# Altium integrated library TI Power Management Power Modules.IntLib: 831 symbols (part 38 of 44)
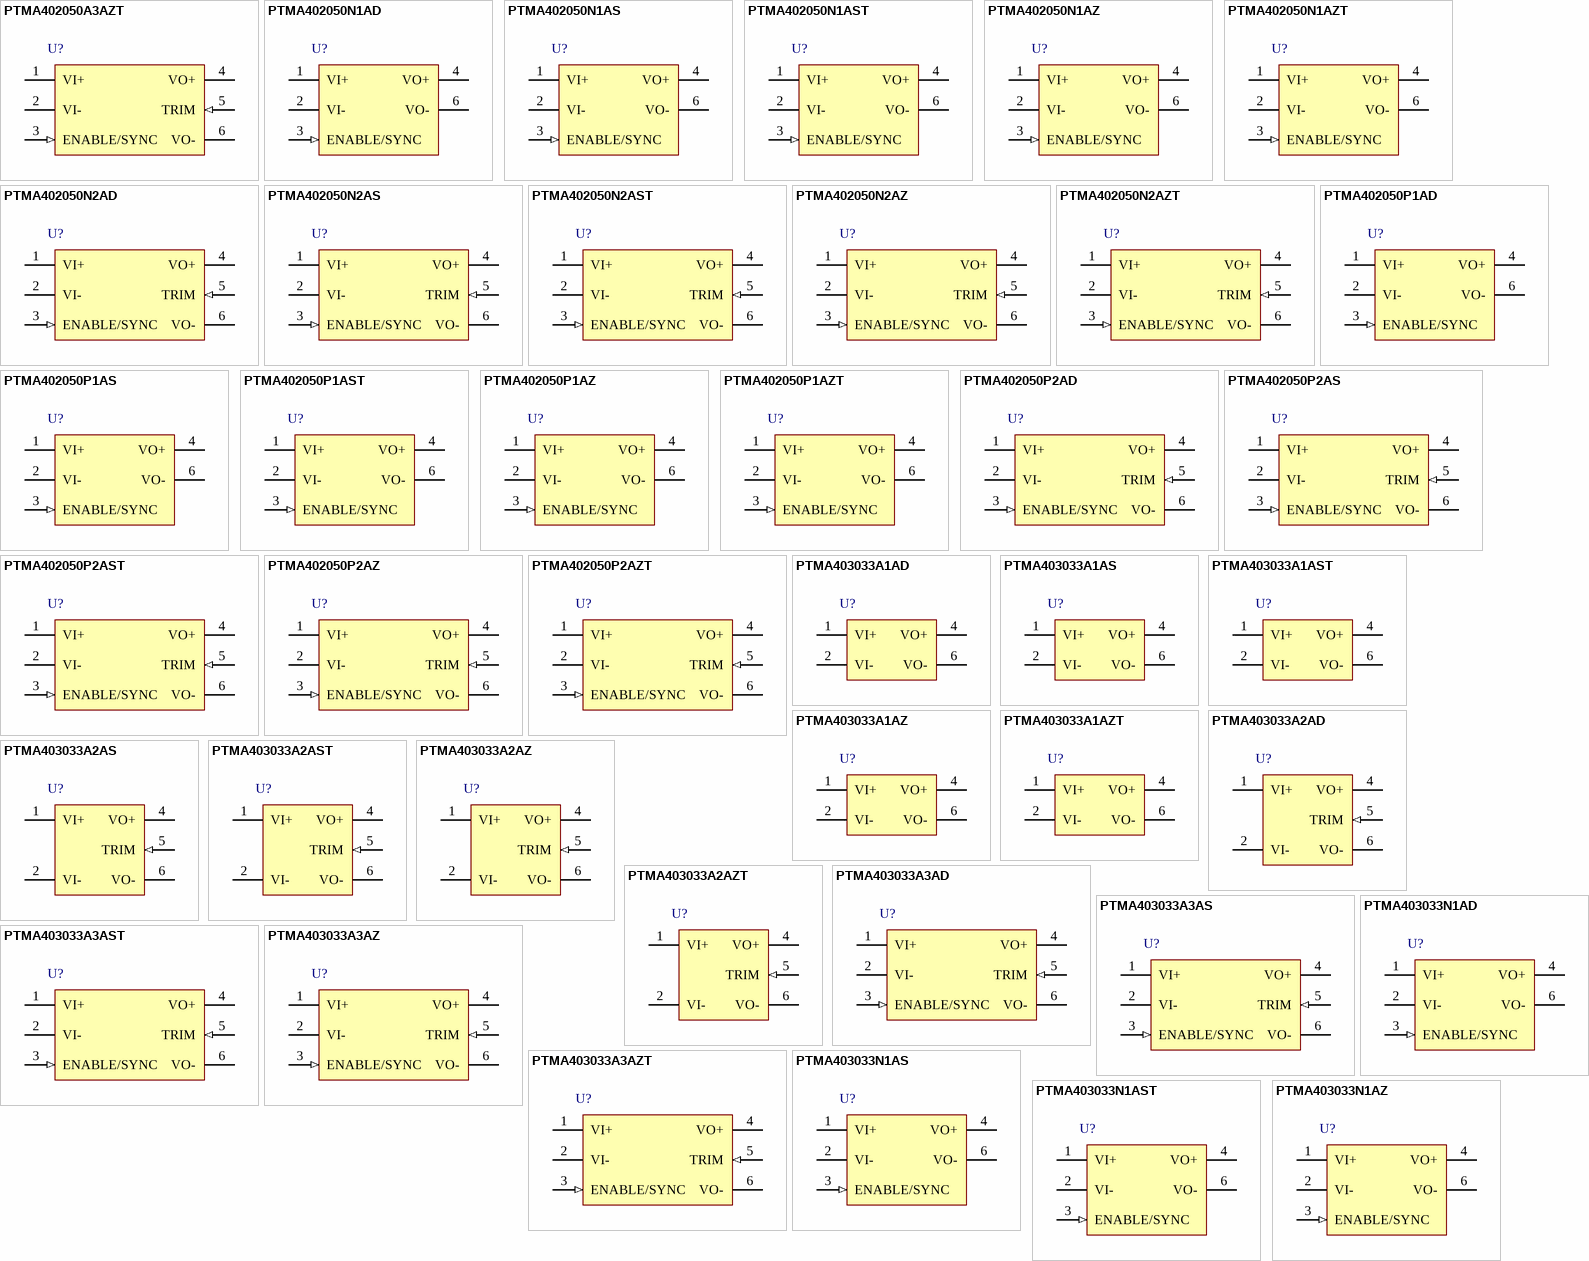
[diagram p60: symbols PTMA402050A3AZT to PTMA403033N1AZ]

## PTMA403033A3AZT
designator U?
10 W, 36 to 75 V Input, 1500 V Isolation, DC-DC Converter, -40 to 85 degC, 6-pin Module (BET6); Manufacturer: Texas Instruments; PartNumber: PTMA403033A3AZT; Eco-Plan: TBD; Iout(Max)(A): 3; Regulated Outputs(#): 1; SubFamily: 48V Standard Pinout Brick and 36V to 75V Input; Vin(Max)(V): 75; Vin(Min)(V): 36; Vout(Max)(V): 3.6; DatasheetVersion: SLTS259B; PackageVersion: 4207711-4/B; PackageReference: BET6; PackageDescription: 6-Pin Plastic Special Shape, Body 24.38 x 27.94 mm; Supplier 1: Digi-Key; Supplier Part Number 1: PTMA403033A3AZT-ND; Supplier 2: Mouser; Supplier Part Number 2: 595-PTMA403033A3AZT; Vout(Min)(V): 3; Mounting Technology: Surface Mount; ComponentLink1Description: Manufacturer URL; ComponentLink1URL: http://www.ti.com/; ComponentLink2Description: Datasheet; ComponentLink2URL: http://www.ti.com/general/docs/lit/getliterature.tsp?genericPartNumber=PTMA403033&fileType=pdf; ComponentLink3Description: Package Specification; ComponentLink3URL: http://www.ti.com/lit/ml/mpds256a/mpds256a.pdf; ComponentLink4Description: URL Link1; ComponentLink4URL: Samples URL:http://www.ti.com/product/ptma403033#samples
footprint TI-BET6_V (Module, 6-Leads, Body 27.94x24.38mm)
pins: 1 VI+ (power) "The positive input for the module with respect to VI- When powering the module from a negative input voltage, this input is connected to the input source ground.", 2 VI- (power) "The negative input supply for the module, and the 0-V reference for the Enable/Sync inputs. When powering the module from a positive source, this input is connected to the input source return.", 3 ENABLE/SYNC (in), 4 VO+ (power) "This is the positive power output with respect to VO-. It is dc isolated from the input power pins.", 5 TRIM (in) "This pin allows the output voltage set point of the module to be increased or decreased up to +/- 10 %. Connecting a resistor between this terminal and VO+ decreases the output voltage set point. Connecting a resistor (See Datasheet)", 6 VO- (power) "This is the output power return for the VO+ bus. This terminal should be connected to the common of the load circuit."

## PTMA403033N1AD
designator U?
10 W, 36 to 75 V Input, 1500 V Isolation, DC-DC Converter, -40 to 85 degC, 5-pin Module (EEP5), Pb-Free (RoHS); Manufacturer: Texas Instruments; PartNumber: PTMA403033N1AD; Iout(Max)(A): 3; Regulated Outputs(#): 1; SubFamily: 48V Standard Pinout Brick and 36V to 75V Input; Vin(Max)(V): 75; Vin(Min)(V): 36; Vout(Max)(V): 3.6; DatasheetVersion: SLTS259B; PackageVersion: 4207367-3/C; PackageReference: EEP5; PackageDescription: 5-Pin Plastic Special Shape, Body 24.38 x 27.94 mm; Supplier 1: Digi-Key; Supplier Part Number 1: 296-21485-ND; Supplier 2: Newark; Supplier Part Number 2: 81K3793; Supplier 3: Mouser; Supplier Part Number 3: 595-PTMA403033N1AD; Eco-Plan: Pb-Free (RoHS); Vout(Min)(V): 3; Mounting Technology: Through Hole; ComponentLink1Description: Manufacturer URL; ComponentLink1URL: http://www.ti.com/; ComponentLink2Description: Datasheet; ComponentLink2URL: http://www.ti.com/general/docs/lit/getliterature.tsp?genericPartNumber=PTMA403033&fileType=pdf; ComponentLink3Description: Package Specification; ComponentLink3URL: http://www.ti.com/litv/pdf/mpds249; ComponentLink4Description: URL Link1; ComponentLink4URL: Samples URL:http://www.ti.com/product/ptma403033#samples
footprint TI-EEP5_V (Module, 5-Leads, Body 27.94x24.38mm)
pins: 1 VI+ (power) "The positive input for the module with respect to VI-. When powering the module from a negative input voltage, this input is connected to the input source ground.", 2 VI- (power) "The negative input supply for the module, and the 0-V reference for the Enable/Sync inputs. When powering the module from a positive source, this input is connected to the input source return.", 3 ENABLE/SYNC (in) "The Enable input is an open-base logic input that is referenced to VI-. Two ON/OFF enable options are available, positve logic and negative logic. Positive logic devices are enabled by applying a logic high voltage (Open) (See Datasheet)", 4 VO+ (power) "This is the positive power output with respect to VO-. It is dc isolated from the input power pins.", 6 VO- (power) "This is the output power return for the VO+ bus. This terminal should be connected to the common of the load circuit."

## PTMA403033N1AS
designator U?
10 W, 36 to 75 V Input, 1500 V Isolation, DC-DC Converter, -40 to 85 degC, 5-pin Module (EET5); Manufacturer: Texas Instruments; PartNumber: PTMA403033N1AS; Eco-Plan: TBD; Iout(Max)(A): 3; Regulated Outputs(#): 1; SubFamily: 48V Standard Pinout Brick and 36V to 75V Input; Vin(Max)(V): 75; Vin(Min)(V): 36; Vout(Max)(V): 3.6; DatasheetVersion: SLTS259B; PackageVersion: 4207368-3/C; PackageReference: EET5; PackageDescription: 5-Pin Plastic Special Shape, Body 24.38 x 27.94 mm; Supplier 1: Digi-Key; Supplier Part Number 1: PTMA403033N1AS-ND; Supplier 2: Newark; Supplier Part Number 2: 81K3794; Supplier 3: Mouser; Supplier Part Number 3: 595-PTMA403033N1AS; Vout(Min)(V): 3; Mounting Technology: Surface Mount; ComponentLink1Description: Manufacturer URL; ComponentLink1URL: http://www.ti.com/; ComponentLink2Description: Datasheet; ComponentLink2URL: http://www.ti.com/general/docs/lit/getliterature.tsp?genericPartNumber=PTMA403033&fileType=pdf; ComponentLink3Description: Package Specification; ComponentLink3URL: http://www.ti.com/litv/pdf/mpds250; ComponentLink4Description: URL Link1; ComponentLink4URL: Samples URL:http://www.ti.com/product/ptma403033#samples
footprint TI-EET5_V (Module, 5-Leads, Body 27.94x24.38mm)
pins: 1 VI+ (power) "The positive input for the module with respect to VI-. When powering the module from a negative input voltage, this input is connected to the input source ground.", 2 VI- (power) "The negative input supply for the module, and the 0-V reference for the Enable/Sync inputs. When powering the module from a positive source, this input is connected to the input source return.", 3 ENABLE/SYNC (in) "The Enable input is an open-base logic input that is referenced to VI-. Two ON/OFF enable options are available, positve logic and negative logic. Positive logic devices are enabled by applying a logic high voltage (Open) (See Datasheet)", 4 VO+ (power) "This is the positive power output with respect to VO-. It is dc isolated from the input power pins.", 6 VO- (power) "This is the output power return for the VO+ bus. This terminal should be connected to the common of the load circuit."

## PTMA403033N1AST
designator U?
10 W, 36 to 75 V Input, 1500 V Isolation, DC-DC Converter, -40 to 85 degC, 5-pin Module (EET5); Manufacturer: Texas Instruments; PartNumber: PTMA403033N1AST; Eco-Plan: TBD; Iout(Max)(A): 3; Regulated Outputs(#): 1; SubFamily: 48V Standard Pinout Brick and 36V to 75V Input; Vin(Max)(V): 75; Vin(Min)(V): 36; Vout(Max)(V): 3.6; DatasheetVersion: SLTS259B; PackageVersion: 4207368-3/C; PackageReference: EET5; PackageDescription: 5-Pin Plastic Special Shape, Body 24.38 x 27.94 mm; Supplier 1: Digi-Key; Supplier Part Number 1: PTMA403033N1AST-ND; Supplier 2: Mouser; Supplier Part Number 2: 595-PTMA403033N1AST; Vout(Min)(V): 3; Mounting Technology: Surface Mount; ComponentLink1Description: Manufacturer URL; ComponentLink1URL: http://www.ti.com/; ComponentLink2Description: Datasheet; ComponentLink2URL: http://www.ti.com/general/docs/lit/getliterature.tsp?genericPartNumber=PTMA403033&fileType=pdf; ComponentLink3Description: Package Specification; ComponentLink3URL: http://www.ti.com/litv/pdf/mpds250; ComponentLink4Description: URL Link1; ComponentLink4URL: Samples URL:http://www.ti.com/product/ptma403033#samples
footprint TI-EET5_V (Module, 5-Leads, Body 27.94x24.38mm)
pins: 1 VI+ (power) "The positive input for the module with respect to VI-. When powering the module from a negative input voltage, this input is connected to the input source ground.", 2 VI- (power) "The negative input supply for the module, and the 0-V reference for the Enable/Sync inputs. When powering the module from a positive source, this input is connected to the input source return.", 3 ENABLE/SYNC (in) "The Enable input is an open-base logic input that is referenced to VI-. Two ON/OFF enable options are available, positve logic and negative logic. Positive logic devices are enabled by applying a logic high voltage (Open) (See Datasheet)", 4 VO+ (power) "This is the positive power output with respect to VO-. It is dc isolated from the input power pins.", 6 VO- (power) "This is the output power return for the VO+ bus. This terminal should be connected to the common of the load circuit."

## PTMA403033N1AZ
designator U?
10 W, 36 to 75 V Input, 1500 V Isolation, DC-DC Converter, -40 to 85 degC, 5-pin Module (BET5), Pb-Free (RoHS); Manufacturer: Texas Instruments; PartNumber: PTMA403033N1AZ; Iout(Max)(A): 3; Regulated Outputs(#): 1; SubFamily: 48V Standard Pinout Brick and 36V to 75V Input; Vin(Max)(V): 75; Vin(Min)(V): 36; Vout(Max)(V): 3.6; DatasheetVersion: SLTS259B; PackageVersion: 4207711-3/B; PackageReference: BET5; PackageDescription: 5-Pin Plastic Special Shape, Body 24.38 x 27.94 mm; Supplier 1: Digi-Key; Supplier Part Number 1: 296-21486-ND; Supplier 2: Newark; Supplier Part Number 2: 81K3796; Supplier 3: Mouser; Supplier Part Number 3: 595-PTMA403033N1AZ; Eco-Plan: Pb-Free (RoHS); Vout(Min)(V): 3; Mounting Technology: Surface Mount; ComponentLink1Description: Manufacturer URL; ComponentLink1URL: http://www.ti.com/; ComponentLink2Description: Datasheet; ComponentLink2URL: http://www.ti.com/general/docs/lit/getliterature.tsp?genericPartNumber=PTMA403033&fileType=pdf; ComponentLink3Description: Package Specification; ComponentLink3URL: http://www-s.ti.com/sc/psheets/mpds255a/mpds255a.pdf; ComponentLink4Description: URL Link1; ComponentLink4URL: Samples URL:http://www.ti.com/product/ptma403033#samples
footprint TI-BET5_V (Module, 5-Leads, Body 27.94x24.38mm)
pins: 1 VI+ (power) "The positive input for the module with respect to VI-. When powering the module from a negative input voltage, this input is connected to the input source ground.", 2 VI- (power) "The negative input supply for the module, and the 0-V reference for the Enable/Sync inputs. When powering the module from a positive source, this input is connected to the input source return.", 3 ENABLE/SYNC (in) "The Enable input is an open-base logic input that is referenced to VI-. Two ON/OFF enable options are available, positve logic and negative logic. Positive logic devices are enabled by applying a logic high voltage (Open) (See Datasheet)", 4 VO+ (power) "This is the positive power output with respect to VO-. It is dc isolated from the input power pins.", 6 VO- (power) "This is the output power return for the VO+ bus. This terminal should be connected to the common of the load circuit."

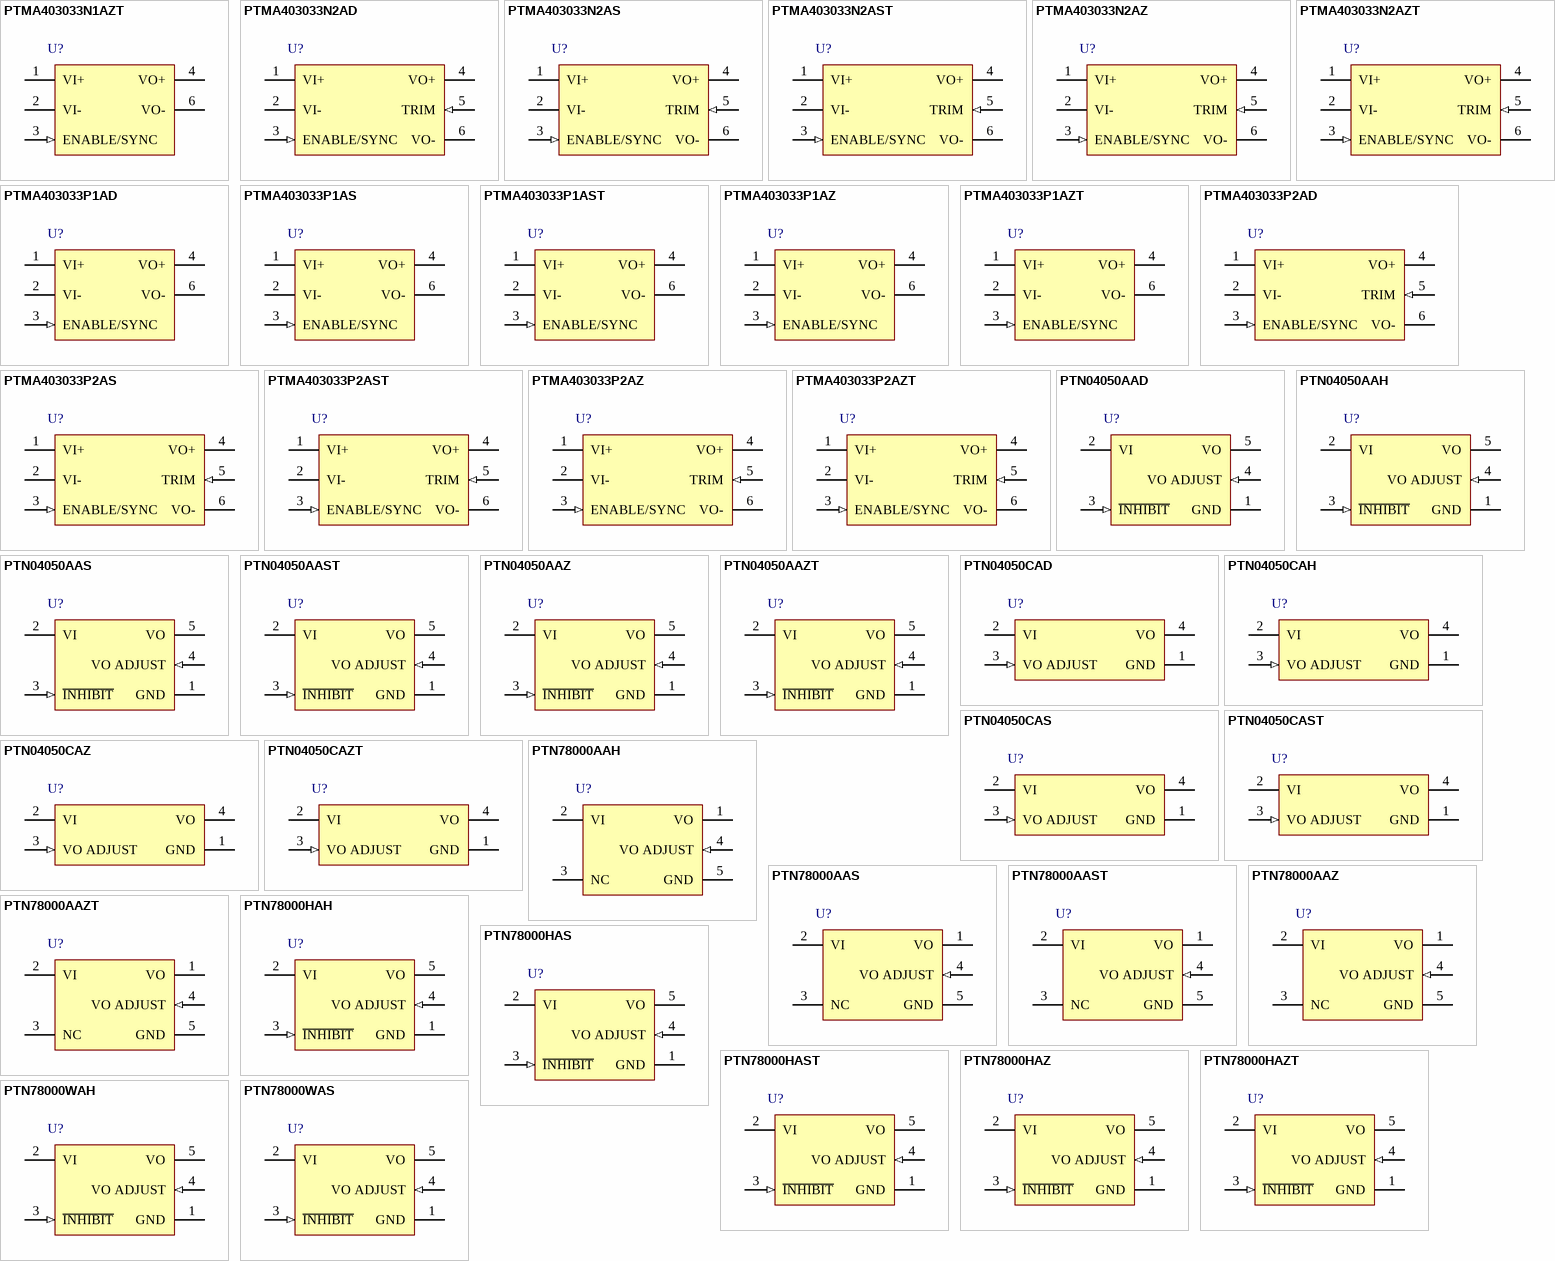
[diagram p21: symbols PTMA403033N1AZT to PTN78000WAS]

## PTMA403033N1AZT
designator U?
10 W, 36 to 75 V Input, 1500 V Isolation, DC-DC Converter, -40 to 85 degC, 5-pin Module (BET5); Manufacturer: Texas Instruments; PartNumber: PTMA403033N1AZT; Eco-Plan: TBD; Iout(Max)(A): 3; Regulated Outputs(#): 1; SubFamily: 48V Standard Pinout Brick and 36V to 75V Input; Vin(Max)(V): 75; Vin(Min)(V): 36; Vout(Max)(V): 3.6; DatasheetVersion: SLTS259B; PackageVersion: 4207711-3/B; PackageReference: BET5; PackageDescription: 5-Pin Plastic Special Shape, Body 24.38 x 27.94 mm; Supplier 1: Digi-Key; Supplier Part Number 1: PTMA403033N1AZT-ND; Supplier 2: Newark; Supplier Part Number 2: 81K3797; Supplier 3: Mouser; Supplier Part Number 3: 595-PTMA403033N1AZT; Vout(Min)(V): 3; Mounting Technology: Surface Mount; ComponentLink1Description: Manufacturer URL; ComponentLink1URL: http://www.ti.com/; ComponentLink2Description: Datasheet; ComponentLink2URL: http://www.ti.com/general/docs/lit/getliterature.tsp?genericPartNumber=PTMA403033&fileType=pdf; ComponentLink3Description: Package Specification; ComponentLink3URL: http://www-s.ti.com/sc/psheets/mpds255a/mpds255a.pdf; ComponentLink4Description: URL Link1; ComponentLink4URL: Samples URL:http://www.ti.com/product/ptma403033#samples
footprint TI-BET5_V (Module, 5-Leads, Body 27.94x24.38mm)
pins: 1 VI+ (power) "The positive input for the module with respect to VI-. When powering the module from a negative input voltage, this input is connected to the input source ground.", 2 VI- (power) "The negative input supply for the module, and the 0-V reference for the Enable/Sync inputs. When powering the module from a positive source, this input is connected to the input source return.", 3 ENABLE/SYNC (in) "The Enable input is an open-base logic input that is referenced to VI-. Two ON/OFF enable options are available, positve logic and negative logic. Positive logic devices are enabled by applying a logic high voltage (Open) (See Datasheet)", 4 VO+ (power) "This is the positive power output with respect to VO-. It is dc isolated from the input power pins.", 6 VO- (power) "This is the output power return for the VO+ bus. This terminal should be connected to the common of the load circuit."

## PTMA403033N2AD
designator U?
10 W, 36 to 75 V Input, 1500 V Isolation, DC-DC Converter, -40 to 85 degC, 6-pin Module (EEP6), Pb-Free (RoHS); Manufacturer: Texas Instruments; PartNumber: PTMA403033N2AD; Iout(Max)(A): 3; Regulated Outputs(#): 1; SubFamily: 48V Standard Pinout Brick and 36V to 75V Input; Vin(Max)(V): 75; Vin(Min)(V): 36; Vout(Max)(V): 3.6; DatasheetVersion: SLTS259B; PackageVersion: 4207367-4/C; PackageReference: EEP6; PackageDescription: 6-Pin Plastic Special Shape, Body 24.38 x 27.94 mm; Supplier 1: Digi-Key; Supplier Part Number 1: 296-20494-ND; Supplier 2: Newark; Supplier Part Number 2: 81K3798; Supplier 3: Mouser; Supplier Part Number 3: 595-PTMA403033N2AD; Eco-Plan: Pb-Free (RoHS); Vout(Min)(V): 3; Mounting Technology: Through Hole; ComponentLink1Description: Manufacturer URL; ComponentLink1URL: http://www.ti.com/; ComponentLink2Description: Datasheet; ComponentLink2URL: http://www.ti.com/general/docs/lit/getliterature.tsp?genericPartNumber=PTMA403033&fileType=pdf; ComponentLink3Description: Package Specification; ComponentLink3URL: http://www.ti.com/litv/pdf/mpds232b; ComponentLink4Description: URL Link1; ComponentLink4URL: Samples URL:http://www.ti.com/product/ptma403033#samples
footprint TI-EEP6_V (Module, 6-Leads, Body 27.94x24.38mm)
pins: 1 VI+ (power) "The positive input for the module with respect to VI- When powering the module from a negative input voltage, this input is connected to the input source ground.", 2 VI- (power) "The negative input supply for the module, and the 0-V reference for the Enable/Sync inputs. When powering the module from a positive source, this input is connected to the input source return.", 3 ENABLE/SYNC (in), 4 VO+ (power) "This is the positive power output with respect to VO-. It is dc isolated from the input power pins.", 5 TRIM (in) "This pin allows the output voltage set point of the module to be increased or decreased up to +/- 10 %. Connecting a resistor between this terminal and VO+ decreases the output voltage set point. Connecting a resistor (See Datasheet)", 6 VO- (power) "This is the output power return for the VO+ bus. This terminal should be connected to the common of the load circuit."

## PTMA403033N2AS
designator U?
10 W, 36 to 75 V Input, 1500 V Isolation, DC-DC Converter, -40 to 85 degC, 6-pin Module (EET6); Manufacturer: Texas Instruments; PartNumber: PTMA403033N2AS; Eco-Plan: TBD; Iout(Max)(A): 3; Regulated Outputs(#): 1; SubFamily: 48V Standard Pinout Brick and 36V to 75V Input; Vin(Max)(V): 75; Vin(Min)(V): 36; Vout(Max)(V): 3.6; DatasheetVersion: SLTS259B; PackageVersion: 4207368-4/C; PackageReference: EET6; PackageDescription: 6-Pin Plastic Special Shape, Body 24.38 x 27.94 mm; Supplier 1: Digi-Key; Supplier Part Number 1: 296-20495-ND; Supplier 2: Newark; Supplier Part Number 2: 81K3799; Supplier 3: Mouser; Supplier Part Number 3: 595-PTMA403033N2AS; Vout(Min)(V): 3; Mounting Technology: Surface Mount; ComponentLink1Description: Manufacturer URL; ComponentLink1URL: http://www.ti.com/; ComponentLink2Description: Datasheet; ComponentLink2URL: http://www.ti.com/general/docs/lit/getliterature.tsp?genericPartNumber=PTMA403033&fileType=pdf; ComponentLink3Description: Package Specification; ComponentLink3URL: http://www-s.ti.com/sc/psheets/mpds233b/mpds233b.pdf; ComponentLink4Description: URL Link1; ComponentLink4URL: Samples URL:http://www.ti.com/product/ptma403033#samples
footprint TI-EET6_V (Module, 6-Leads, Body 27.94x24.38mm)
pins: 1 VI+ (power) "The positive input for the module with respect to VI- When powering the module from a negative input voltage, this input is connected to the input source ground.", 2 VI- (power) "The negative input supply for the module, and the 0-V reference for the Enable/Sync inputs. When powering the module from a positive source, this input is connected to the input source return.", 3 ENABLE/SYNC (in), 4 VO+ (power) "This is the positive power output with respect to VO-. It is dc isolated from the input power pins.", 5 TRIM (in) "This pin allows the output voltage set point of the module to be increased or decreased up to +/- 10 %. Connecting a resistor between this terminal and VO+ decreases the output voltage set point. Connecting a resistor (See Datasheet)", 6 VO- (power) "This is the output power return for the VO+ bus. This terminal should be connected to the common of the load circuit."

## PTMA403033N2AST
designator U?
10 W, 36 to 75 V Input, 1500 V Isolation, DC-DC Converter, -40 to 85 degC, 6-pin Module (EET6); Manufacturer: Texas Instruments; PartNumber: PTMA403033N2AST; Eco-Plan: TBD; Iout(Max)(A): 3; Regulated Outputs(#): 1; SubFamily: 48V Standard Pinout Brick and 36V to 75V Input; Vin(Max)(V): 75; Vin(Min)(V): 36; Vout(Max)(V): 3.6; DatasheetVersion: SLTS259B; PackageVersion: 4207368-4/C; PackageReference: EET6; PackageDescription: 6-Pin Plastic Special Shape, Body 24.38 x 27.94 mm; Supplier 1: Digi-Key; Supplier Part Number 1: PTMA403033N2AST-ND; Supplier 2: Mouser; Supplier Part Number 2: 595-PTMA403033N2AST; Vout(Min)(V): 3; Mounting Technology: Surface Mount; ComponentLink1Description: Manufacturer URL; ComponentLink1URL: http://www.ti.com/; ComponentLink2Description: Datasheet; ComponentLink2URL: http://www.ti.com/general/docs/lit/getliterature.tsp?genericPartNumber=PTMA403033&fileType=pdf; ComponentLink3Description: Package Specification; ComponentLink3URL: http://www-s.ti.com/sc/psheets/mpds233b/mpds233b.pdf; ComponentLink4Description: URL Link1; ComponentLink4URL: Samples URL:http://www.ti.com/product/ptma403033#samples
footprint TI-EET6_V (Module, 6-Leads, Body 27.94x24.38mm)
pins: 1 VI+ (power) "The positive input for the module with respect to VI- When powering the module from a negative input voltage, this input is connected to the input source ground.", 2 VI- (power) "The negative input supply for the module, and the 0-V reference for the Enable/Sync inputs. When powering the module from a positive source, this input is connected to the input source return.", 3 ENABLE/SYNC (in), 4 VO+ (power) "This is the positive power output with respect to VO-. It is dc isolated from the input power pins.", 5 TRIM (in) "This pin allows the output voltage set point of the module to be increased or decreased up to +/- 10 %. Connecting a resistor between this terminal and VO+ decreases the output voltage set point. Connecting a resistor (See Datasheet)", 6 VO- (power) "This is the output power return for the VO+ bus. This terminal should be connected to the common of the load circuit."

## PTMA403033N2AZ
designator U?
10 W, 36 to 75 V Input, 1500 V Isolation, DC-DC Converter, -40 to 85 degC, 6-pin Module (BET6), Pb-Free (RoHS); Manufacturer: Texas Instruments; PartNumber: PTMA403033N2AZ; Iout(Max)(A): 3; Regulated Outputs(#): 1; SubFamily: 48V Standard Pinout Brick and 36V to 75V Input; Vin(Max)(V): 75; Vin(Min)(V): 36; Vout(Max)(V): 3.6; DatasheetVersion: SLTS259B; PackageVersion: 4207711-4/B; PackageReference: BET6; PackageDescription: 6-Pin Plastic Special Shape, Body 24.38 x 27.94 mm; Supplier 1: Digi-Key; Supplier Part Number 1: 296-21487-ND; Supplier 2: Newark; Supplier Part Number 2: 81K3801; Supplier 3: Mouser; Supplier Part Number 3: 595-PTMA403033N2AZ; Eco-Plan: Pb-Free (RoHS); Vout(Min)(V): 3; Mounting Technology: Surface Mount; ComponentLink1Description: Manufacturer URL; ComponentLink1URL: http://www.ti.com/; ComponentLink2Description: Datasheet; ComponentLink2URL: http://www.ti.com/general/docs/lit/getliterature.tsp?genericPartNumber=PTMA403033&fileType=pdf; ComponentLink3Description: Package Specification; ComponentLink3URL: http://www.ti.com/lit/ml/mpds256a/mpds256a.pdf; ComponentLink4Description: URL Link1; ComponentLink4URL: Samples URL:http://www.ti.com/product/ptma403033#samples
footprint TI-BET6_V (Module, 6-Leads, Body 27.94x24.38mm)
pins: 1 VI+ (power) "The positive input for the module with respect to VI- When powering the module from a negative input voltage, this input is connected to the input source ground.", 2 VI- (power) "The negative input supply for the module, and the 0-V reference for the Enable/Sync inputs. When powering the module from a positive source, this input is connected to the input source return.", 3 ENABLE/SYNC (in), 4 VO+ (power) "This is the positive power output with respect to VO-. It is dc isolated from the input power pins.", 5 TRIM (in) "This pin allows the output voltage set point of the module to be increased or decreased up to +/- 10 %. Connecting a resistor between this terminal and VO+ decreases the output voltage set point. Connecting a resistor (See Datasheet)", 6 VO- (power) "This is the output power return for the VO+ bus. This terminal should be connected to the common of the load circuit."

## PTMA403033N2AZT
designator U?
10 W, 36 to 75 V Input, 1500 V Isolation, DC-DC Converter, -40 to 85 degC, 6-pin Module (BET6); Manufacturer: Texas Instruments; PartNumber: PTMA403033N2AZT; Eco-Plan: TBD; Iout(Max)(A): 3; Regulated Outputs(#): 1; SubFamily: 48V Standard Pinout Brick and 36V to 75V Input; Vin(Max)(V): 75; Vin(Min)(V): 36; Vout(Max)(V): 3.6; DatasheetVersion: SLTS259B; PackageVersion: 4207711-4/B; PackageReference: BET6; PackageDescription: 6-Pin Plastic Special Shape, Body 24.38 x 27.94 mm; Supplier 1: Digi-Key; Supplier Part Number 1: PTMA403033N2AZT-ND; Supplier 2: Mouser; Supplier Part Number 2: 595-PTMA403033N2AZT; Vout(Min)(V): 3; Mounting Technology: Surface Mount; ComponentLink1Description: Manufacturer URL; ComponentLink1URL: http://www.ti.com/; ComponentLink2Description: Datasheet; ComponentLink2URL: http://www.ti.com/general/docs/lit/getliterature.tsp?genericPartNumber=PTMA403033&fileType=pdf; ComponentLink3Description: Package Specification; ComponentLink3URL: http://www.ti.com/lit/ml/mpds256a/mpds256a.pdf; ComponentLink4Description: URL Link1; ComponentLink4URL: Samples URL:http://www.ti.com/product/ptma403033#samples
footprint TI-BET6_V (Module, 6-Leads, Body 27.94x24.38mm)
pins: 1 VI+ (power) "The positive input for the module with respect to VI- When powering the module from a negative input voltage, this input is connected to the input source ground.", 2 VI- (power) "The negative input supply for the module, and the 0-V reference for the Enable/Sync inputs. When powering the module from a positive source, this input is connected to the input source return.", 3 ENABLE/SYNC (in), 4 VO+ (power) "This is the positive power output with respect to VO-. It is dc isolated from the input power pins.", 5 TRIM (in) "This pin allows the output voltage set point of the module to be increased or decreased up to +/- 10 %. Connecting a resistor between this terminal and VO+ decreases the output voltage set point. Connecting a resistor (See Datasheet)", 6 VO- (power) "This is the output power return for the VO+ bus. This terminal should be connected to the common of the load circuit."

## PTMA403033P1AD
designator U?
10 W, 36 to 75 V Input, 1500 V Isolation, DC-DC Converter, -40 to 85 degC, 5-pin Module (EEP5), Pb-Free (RoHS); Manufacturer: Texas Instruments; PartNumber: PTMA403033P1AD; Iout(Max)(A): 3; Regulated Outputs(#): 1; SubFamily: 48V Standard Pinout Brick and 36V to 75V Input; Vin(Max)(V): 75; Vin(Min)(V): 36; Vout(Max)(V): 3.6; DatasheetVersion: SLTS259B; PackageVersion: 4207367-3/C; PackageReference: EEP5; PackageDescription: 5-Pin Plastic Special Shape, Body 24.38 x 27.94 mm; Supplier 1: Digi-Key; Supplier Part Number 1: 296-21488-ND; Supplier 2: Newark; Supplier Part Number 2: 81K3803; Supplier 3: Mouser; Supplier Part Number 3: 595-PTMA403033P1AD; Eco-Plan: Pb-Free (RoHS); Vout(Min)(V): 3; Mounting Technology: Through Hole; ComponentLink1Description: Manufacturer URL; ComponentLink1URL: http://www.ti.com/; ComponentLink2Description: Datasheet; ComponentLink2URL: http://www.ti.com/general/docs/lit/getliterature.tsp?genericPartNumber=PTMA403033&fileType=pdf; ComponentLink3Description: Package Specification; ComponentLink3URL: http://www.ti.com/litv/pdf/mpds249; ComponentLink4Description: URL Link1; ComponentLink4URL: Samples URL:http://www.ti.com/product/ptma403033#samples
footprint TI-EEP5_V (Module, 5-Leads, Body 27.94x24.38mm)
pins: 1 VI+ (power) "The positive input for the module with respect to VI-. When powering the module from a negative input voltage, this input is connected to the input source ground.", 2 VI- (power) "The negative input supply for the module, and the 0-V reference for the Enable/Sync inputs. When powering the module from a positive source, this input is connected to the input source return.", 3 ENABLE/SYNC (in) "The Enable input is an open-base logic input that is referenced to VI-. Two ON/OFF enable options are available, positve logic and negative logic. Positive logic devices are enabled by applying a logic high voltage (Open) (See Datasheet)", 4 VO+ (power) "This is the positive power output with respect to VO-. It is dc isolated from the input power pins.", 6 VO- (power) "This is the output power return for the VO+ bus. This terminal should be connected to the common of the load circuit."

## PTMA403033P1AS
designator U?
10 W, 36 to 75 V Input, 1500 V Isolation, DC-DC Converter, -40 to 85 degC, 5-pin Module (EET5); Manufacturer: Texas Instruments; PartNumber: PTMA403033P1AS; Eco-Plan: TBD; Iout(Max)(A): 3; Regulated Outputs(#): 1; SubFamily: 48V Standard Pinout Brick and 36V to 75V Input; Vin(Max)(V): 75; Vin(Min)(V): 36; Vout(Max)(V): 3.6; DatasheetVersion: SLTS259B; PackageVersion: 4207368-3/C; PackageReference: EET5; PackageDescription: 5-Pin Plastic Special Shape, Body 24.38 x 27.94 mm; Supplier 1: Digi-Key; Supplier Part Number 1: PTMA403033P1AS-ND; Supplier 2: Mouser; Supplier Part Number 2: 595-PTMA403033P1AS; Vout(Min)(V): 3; Mounting Technology: Surface Mount; ComponentLink1Description: Manufacturer URL; ComponentLink1URL: http://www.ti.com/; ComponentLink2Description: Datasheet; ComponentLink2URL: http://www.ti.com/general/docs/lit/getliterature.tsp?genericPartNumber=PTMA403033&fileType=pdf; ComponentLink3Description: Package Specification; ComponentLink3URL: http://www.ti.com/litv/pdf/mpds250; ComponentLink4Description: URL Link1; ComponentLink4URL: Samples URL:http://www.ti.com/product/ptma403033#samples
footprint TI-EET5_V (Module, 5-Leads, Body 27.94x24.38mm)
pins: 1 VI+ (power) "The positive input for the module with respect to VI-. When powering the module from a negative input voltage, this input is connected to the input source ground.", 2 VI- (power) "The negative input supply for the module, and the 0-V reference for the Enable/Sync inputs. When powering the module from a positive source, this input is connected to the input source return.", 3 ENABLE/SYNC (in) "The Enable input is an open-base logic input that is referenced to VI-. Two ON/OFF enable options are available, positve logic and negative logic. Positive logic devices are enabled by applying a logic high voltage (Open) (See Datasheet)", 4 VO+ (power) "This is the positive power output with respect to VO-. It is dc isolated from the input power pins.", 6 VO- (power) "This is the output power return for the VO+ bus. This terminal should be connected to the common of the load circuit."

## PTMA403033P1AST
designator U?
10 W, 36 to 75 V Input, 1500 V Isolation, DC-DC Converter, -40 to 85 degC, 5-pin Module (EET5); Manufacturer: Texas Instruments; PartNumber: PTMA403033P1AST; Eco-Plan: TBD; Iout(Max)(A): 3; Regulated Outputs(#): 1; SubFamily: 48V Standard Pinout Brick and 36V to 75V Input; Vin(Max)(V): 75; Vin(Min)(V): 36; Vout(Max)(V): 3.6; DatasheetVersion: SLTS259B; PackageVersion: 4207368-3/C; PackageReference: EET5; PackageDescription: 5-Pin Plastic Special Shape, Body 24.38 x 27.94 mm; Supplier 1: Digi-Key; Supplier Part Number 1: PTMA403033P1AST-ND; Supplier 2: Mouser; Supplier Part Number 2: 595-PTMA403033P1AST; Vout(Min)(V): 3; Mounting Technology: Surface Mount; ComponentLink1Description: Manufacturer URL; ComponentLink1URL: http://www.ti.com/; ComponentLink2Description: Datasheet; ComponentLink2URL: http://www.ti.com/general/docs/lit/getliterature.tsp?genericPartNumber=PTMA403033&fileType=pdf; ComponentLink3Description: Package Specification; ComponentLink3URL: http://www.ti.com/litv/pdf/mpds250; ComponentLink4Description: URL Link1; ComponentLink4URL: Samples URL:http://www.ti.com/product/ptma403033#samples
footprint TI-EET5_V (Module, 5-Leads, Body 27.94x24.38mm)
pins: 1 VI+ (power) "The positive input for the module with respect to VI-. When powering the module from a negative input voltage, this input is connected to the input source ground.", 2 VI- (power) "The negative input supply for the module, and the 0-V reference for the Enable/Sync inputs. When powering the module from a positive source, this input is connected to the input source return.", 3 ENABLE/SYNC (in) "The Enable input is an open-base logic input that is referenced to VI-. Two ON/OFF enable options are available, positve logic and negative logic. Positive logic devices are enabled by applying a logic high voltage (Open) (See Datasheet)", 4 VO+ (power) "This is the positive power output with respect to VO-. It is dc isolated from the input power pins.", 6 VO- (power) "This is the output power return for the VO+ bus. This terminal should be connected to the common of the load circuit."

## PTMA403033P1AZ
designator U?
10 W, 36 to 75 V Input, 1500 V Isolation, DC-DC Converter, -40 to 85 degC, 5-pin Module (BET5), Pb-Free (RoHS); Manufacturer: Texas Instruments; PartNumber: PTMA403033P1AZ; Iout(Max)(A): 3; Regulated Outputs(#): 1; SubFamily: 48V Standard Pinout Brick and 36V to 75V Input; Vin(Max)(V): 75; Vin(Min)(V): 36; Vout(Max)(V): 3.6; DatasheetVersion: SLTS259B; PackageVersion: 4207711-3/B; PackageReference: BET5; PackageDescription: 5-Pin Plastic Special Shape, Body 24.38 x 27.94 mm; Supplier 1: Digi-Key; Supplier Part Number 1: PTMA403033P1AZ-ND; Supplier 2: Mouser; Supplier Part Number 2: 595-PTMA403033P1AZ; Eco-Plan: Pb-Free (RoHS); Vout(Min)(V): 3; Mounting Technology: Surface Mount; ComponentLink1Description: Manufacturer URL; ComponentLink1URL: http://www.ti.com/; ComponentLink2Description: Datasheet; ComponentLink2URL: http://www.ti.com/general/docs/lit/getliterature.tsp?genericPartNumber=PTMA403033&fileType=pdf; ComponentLink3Description: Package Specification; ComponentLink3URL: http://www-s.ti.com/sc/psheets/mpds255a/mpds255a.pdf; ComponentLink4Description: URL Link1; ComponentLink4URL: Samples URL:http://www.ti.com/product/ptma403033#samples
footprint TI-BET5_V (Module, 5-Leads, Body 27.94x24.38mm)
pins: 1 VI+ (power) "The positive input for the module with respect to VI-. When powering the module from a negative input voltage, this input is connected to the input source ground.", 2 VI- (power) "The negative input supply for the module, and the 0-V reference for the Enable/Sync inputs. When powering the module from a positive source, this input is connected to the input source return.", 3 ENABLE/SYNC (in) "The Enable input is an open-base logic input that is referenced to VI-. Two ON/OFF enable options are available, positve logic and negative logic. Positive logic devices are enabled by applying a logic high voltage (Open) (See Datasheet)", 4 VO+ (power) "This is the positive power output with respect to VO-. It is dc isolated from the input power pins.", 6 VO- (power) "This is the output power return for the VO+ bus. This terminal should be connected to the common of the load circuit."

## PTMA403033P1AZT
designator U?
10 W, 36 to 75 V Input, 1500 V Isolation, DC-DC Converter, -40 to 85 degC, 5-pin Module (BET5); Manufacturer: Texas Instruments; PartNumber: PTMA403033P1AZT; Eco-Plan: TBD; Iout(Max)(A): 3; Regulated Outputs(#): 1; SubFamily: 48V Standard Pinout Brick and 36V to 75V Input; Vin(Max)(V): 75; Vin(Min)(V): 36; Vout(Max)(V): 3.6; DatasheetVersion: SLTS259B; PackageVersion: 4207711-3/B; PackageReference: BET5; PackageDescription: 5-Pin Plastic Special Shape, Body 24.38 x 27.94 mm; Supplier 1: Digi-Key; Supplier Part Number 1: PTMA403033P1AZT-ND; Supplier 2: Mouser; Supplier Part Number 2: 595-PTMA403033P1AZT; Vout(Min)(V): 3; Mounting Technology: Surface Mount; ComponentLink1Description: Manufacturer URL; ComponentLink1URL: http://www.ti.com/; ComponentLink2Description: Datasheet; ComponentLink2URL: http://www.ti.com/general/docs/lit/getliterature.tsp?genericPartNumber=PTMA403033&fileType=pdf; ComponentLink3Description: Package Specification; ComponentLink3URL: http://www-s.ti.com/sc/psheets/mpds255a/mpds255a.pdf; ComponentLink4Description: URL Link1; ComponentLink4URL: Samples URL:http://www.ti.com/product/ptma403033#samples
footprint TI-BET5_V (Module, 5-Leads, Body 27.94x24.38mm)
pins: 1 VI+ (power) "The positive input for the module with respect to VI-. When powering the module from a negative input voltage, this input is connected to the input source ground.", 2 VI- (power) "The negative input supply for the module, and the 0-V reference for the Enable/Sync inputs. When powering the module from a positive source, this input is connected to the input source return.", 3 ENABLE/SYNC (in) "The Enable input is an open-base logic input that is referenced to VI-. Two ON/OFF enable options are available, positve logic and negative logic. Positive logic devices are enabled by applying a logic high voltage (Open) (See Datasheet)", 4 VO+ (power) "This is the positive power output with respect to VO-. It is dc isolated from the input power pins.", 6 VO- (power) "This is the output power return for the VO+ bus. This terminal should be connected to the common of the load circuit."

## PTMA403033P2AD
designator U?
10 W, 36 to 75 V Input, 1500 V Isolation, DC-DC Converter, -40 to 85 degC, 6-pin Module (EEP6), Pb-Free (RoHS); Manufacturer: Texas Instruments; PartNumber: PTMA403033P2AD; Iout(Max)(A): 3; Regulated Outputs(#): 1; SubFamily: 48V Standard Pinout Brick and 36V to 75V Input; Vin(Max)(V): 75; Vin(Min)(V): 36; Vout(Max)(V): 3.6; DatasheetVersion: SLTS259B; PackageVersion: 4207367-4/C; PackageReference: EEP6; PackageDescription: 6-Pin Plastic Special Shape, Body 24.38 x 27.94 mm; Supplier 1: Digi-Key; Supplier Part Number 1: 296-21489-ND; Supplier 2: Newark; Supplier Part Number 2: 81K3808; Supplier 3: Mouser; Supplier Part Number 3: 595-PTMA403033P2AD; Eco-Plan: Pb-Free (RoHS); Vout(Min)(V): 3; Mounting Technology: Through Hole; ComponentLink1Description: Manufacturer URL; ComponentLink1URL: http://www.ti.com/; ComponentLink2Description: Datasheet; ComponentLink2URL: http://www.ti.com/general/docs/lit/getliterature.tsp?genericPartNumber=PTMA403033&fileType=pdf; ComponentLink3Description: Package Specification; ComponentLink3URL: http://www.ti.com/litv/pdf/mpds232b; ComponentLink4Description: URL Link1; ComponentLink4URL: Samples URL:http://www.ti.com/product/ptma403033#samples
footprint TI-EEP6_V (Module, 6-Leads, Body 27.94x24.38mm)
pins: 1 VI+ (power) "The positive input for the module with respect to VI- When powering the module from a negative input voltage, this input is connected to the input source ground.", 2 VI- (power) "The negative input supply for the module, and the 0-V reference for the Enable/Sync inputs. When powering the module from a positive source, this input is connected to the input source return.", 3 ENABLE/SYNC (in), 4 VO+ (power) "This is the positive power output with respect to VO-. It is dc isolated from the input power pins.", 5 TRIM (in) "This pin allows the output voltage set point of the module to be increased or decreased up to +/- 10 %. Connecting a resistor between this terminal and VO+ decreases the output voltage set point. Connecting a resistor (See Datasheet)", 6 VO- (power) "This is the output power return for the VO+ bus. This terminal should be connected to the common of the load circuit."

## PTMA403033P2AS
designator U?
10 W, 36 to 75 V Input, 1500 V Isolation, DC-DC Converter, -40 to 85 degC, 6-pin Module (EET6); Manufacturer: Texas Instruments; PartNumber: PTMA403033P2AS; Eco-Plan: TBD; Iout(Max)(A): 3; Regulated Outputs(#): 1; SubFamily: 48V Standard Pinout Brick and 36V to 75V Input; Vin(Max)(V): 75; Vin(Min)(V): 36; Vout(Max)(V): 3.6; DatasheetVersion: SLTS259B; PackageVersion: 4207368-4/C; PackageReference: EET6; PackageDescription: 6-Pin Plastic Special Shape, Body 24.38 x 27.94 mm; Supplier 1: Digi-Key; Supplier Part Number 1: PTMA403033P2AS-ND; Supplier 2: Mouser; Supplier Part Number 2: 595-PTMA403033P2AS; Vout(Min)(V): 3; Mounting Technology: Surface Mount; ComponentLink1Description: Manufacturer URL; ComponentLink1URL: http://www.ti.com/; ComponentLink2Description: Datasheet; ComponentLink2URL: http://www.ti.com/general/docs/lit/getliterature.tsp?genericPartNumber=PTMA403033&fileType=pdf; ComponentLink3Description: Package Specification; ComponentLink3URL: http://www-s.ti.com/sc/psheets/mpds233b/mpds233b.pdf; ComponentLink4Description: URL Link1; ComponentLink4URL: Samples URL:http://www.ti.com/product/ptma403033#samples
footprint TI-EET6_V (Module, 6-Leads, Body 27.94x24.38mm)
pins: 1 VI+ (power) "The positive input for the module with respect to VI- When powering the module from a negative input voltage, this input is connected to the input source ground.", 2 VI- (power) "The negative input supply for the module, and the 0-V reference for the Enable/Sync inputs. When powering the module from a positive source, this input is connected to the input source return.", 3 ENABLE/SYNC (in), 4 VO+ (power) "This is the positive power output with respect to VO-. It is dc isolated from the input power pins.", 5 TRIM (in) "This pin allows the output voltage set point of the module to be increased or decreased up to +/- 10 %. Connecting a resistor between this terminal and VO+ decreases the output voltage set point. Connecting a resistor (See Datasheet)", 6 VO- (power) "This is the output power return for the VO+ bus. This terminal should be connected to the common of the load circuit."

## PTMA403033P2AST
designator U?
10 W, 36 to 75 V Input, 1500 V Isolation, DC-DC Converter, -40 to 85 degC, 6-pin Module (EET6); Manufacturer: Texas Instruments; PartNumber: PTMA403033P2AST; Eco-Plan: TBD; Iout(Max)(A): 3; Regulated Outputs(#): 1; SubFamily: 48V Standard Pinout Brick and 36V to 75V Input; Vin(Max)(V): 75; Vin(Min)(V): 36; Vout(Max)(V): 3.6; DatasheetVersion: SLTS259B; PackageVersion: 4207368-4/C; PackageReference: EET6; PackageDescription: 6-Pin Plastic Special Shape, Body 24.38 x 27.94 mm; Supplier 1: Digi-Key; Supplier Part Number 1: PTMA403033P2AST-ND; Supplier 2: Mouser; Supplier Part Number 2: 595-PTMA403033P2AST; Vout(Min)(V): 3; Mounting Technology: Surface Mount; ComponentLink1Description: Manufacturer URL; ComponentLink1URL: http://www.ti.com/; ComponentLink2Description: Datasheet; ComponentLink2URL: http://www.ti.com/general/docs/lit/getliterature.tsp?genericPartNumber=PTMA403033&fileType=pdf; ComponentLink3Description: Package Specification; ComponentLink3URL: http://www-s.ti.com/sc/psheets/mpds233b/mpds233b.pdf; ComponentLink4Description: URL Link1; ComponentLink4URL: Samples URL:http://www.ti.com/product/ptma403033#samples
footprint TI-EET6_V (Module, 6-Leads, Body 27.94x24.38mm)
pins: 1 VI+ (power) "The positive input for the module with respect to VI- When powering the module from a negative input voltage, this input is connected to the input source ground.", 2 VI- (power) "The negative input supply for the module, and the 0-V reference for the Enable/Sync inputs. When powering the module from a positive source, this input is connected to the input source return.", 3 ENABLE/SYNC (in), 4 VO+ (power) "This is the positive power output with respect to VO-. It is dc isolated from the input power pins.", 5 TRIM (in) "This pin allows the output voltage set point of the module to be increased or decreased up to +/- 10 %. Connecting a resistor between this terminal and VO+ decreases the output voltage set point. Connecting a resistor (See Datasheet)", 6 VO- (power) "This is the output power return for the VO+ bus. This terminal should be connected to the common of the load circuit."

## PTMA403033P2AZ
designator U?
10 W, 36 to 75 V Input, 1500 V Isolation, DC-DC Converter, -40 to 85 degC, 6-pin Module (BET6), Pb-Free (RoHS); Manufacturer: Texas Instruments; PartNumber: PTMA403033P2AZ; Iout(Max)(A): 3; Regulated Outputs(#): 1; SubFamily: 48V Standard Pinout Brick and 36V to 75V Input; Vin(Max)(V): 75; Vin(Min)(V): 36; Vout(Max)(V): 3.6; DatasheetVersion: SLTS259B; PackageVersion: 4207711-4/B; PackageReference: BET6; PackageDescription: 6-Pin Plastic Special Shape, Body 24.38 x 27.94 mm; Supplier 1: Digi-Key; Supplier Part Number 1: 296-21490-ND; Supplier 2: Newark; Supplier Part Number 2: 81K3811; Supplier 3: Mouser; Supplier Part Number 3: 595-PTMA403033P2AZ; Eco-Plan: Pb-Free (RoHS); Vout(Min)(V): 3; Mounting Technology: Surface Mount; ComponentLink1Description: Manufacturer URL; ComponentLink1URL: http://www.ti.com/; ComponentLink2Description: Datasheet; ComponentLink2URL: http://www.ti.com/general/docs/lit/getliterature.tsp?genericPartNumber=PTMA403033&fileType=pdf; ComponentLink3Description: Package Specification; ComponentLink3URL: http://www.ti.com/lit/ml/mpds256a/mpds256a.pdf; ComponentLink4Description: URL Link1; ComponentLink4URL: Samples URL:http://www.ti.com/product/ptma403033#samples
footprint TI-BET6_V (Module, 6-Leads, Body 27.94x24.38mm)
pins: 1 VI+ (power) "The positive input for the module with respect to VI- When powering the module from a negative input voltage, this input is connected to the input source ground.", 2 VI- (power) "The negative input supply for the module, and the 0-V reference for the Enable/Sync inputs. When powering the module from a positive source, this input is connected to the input source return.", 3 ENABLE/SYNC (in), 4 VO+ (power) "This is the positive power output with respect to VO-. It is dc isolated from the input power pins.", 5 TRIM (in) "This pin allows the output voltage set point of the module to be increased or decreased up to +/- 10 %. Connecting a resistor between this terminal and VO+ decreases the output voltage set point. Connecting a resistor (See Datasheet)", 6 VO- (power) "This is the output power return for the VO+ bus. This terminal should be connected to the common of the load circuit."

## PTMA403033P2AZT
designator U?
10 W, 36 to 75 V Input, 1500 V Isolation, DC-DC Converter, -40 to 85 degC, 6-pin Module (BET6); Manufacturer: Texas Instruments; PartNumber: PTMA403033P2AZT; Eco-Plan: TBD; Iout(Max)(A): 3; Regulated Outputs(#): 1; SubFamily: 48V Standard Pinout Brick and 36V to 75V Input; Vin(Max)(V): 75; Vin(Min)(V): 36; Vout(Max)(V): 3.6; DatasheetVersion: SLTS259B; PackageVersion: 4207711-4/B; PackageReference: BET6; PackageDescription: 6-Pin Plastic Special Shape, Body 24.38 x 27.94 mm; Supplier 1: Digi-Key; Supplier Part Number 1: PTMA403033P2AZT-ND; Supplier 2: Mouser; Supplier Part Number 2: 595-PTMA403033P2AZT; Vout(Min)(V): 3; Mounting Technology: Surface Mount; ComponentLink1Description: Manufacturer URL; ComponentLink1URL: http://www.ti.com/; ComponentLink2Description: Datasheet; ComponentLink2URL: http://www.ti.com/general/docs/lit/getliterature.tsp?genericPartNumber=PTMA403033&fileType=pdf; ComponentLink3Description: Package Specification; ComponentLink3URL: http://www.ti.com/lit/ml/mpds256a/mpds256a.pdf; ComponentLink4Description: URL Link1; ComponentLink4URL: Samples URL:http://www.ti.com/product/ptma403033#samples
footprint TI-BET6_V (Module, 6-Leads, Body 27.94x24.38mm)
pins: 1 VI+ (power) "The positive input for the module with respect to VI- When powering the module from a negative input voltage, this input is connected to the input source ground.", 2 VI- (power) "The negative input supply for the module, and the 0-V reference for the Enable/Sync inputs. When powering the module from a positive source, this input is connected to the input source return.", 3 ENABLE/SYNC (in), 4 VO+ (power) "This is the positive power output with respect to VO-. It is dc isolated from the input power pins.", 5 TRIM (in) "This pin allows the output voltage set point of the module to be increased or decreased up to +/- 10 %. Connecting a resistor between this terminal and VO+ decreases the output voltage set point. Connecting a resistor (See Datasheet)", 6 VO- (power) "This is the output power return for the VO+ bus. This terminal should be connected to the common of the load circuit."

## PTN04050AAD
designator U?
6 W, 3.3 / 5 V Input, Wide Adjust Output Positive-to-Negative Converter, -40 to 85 degC, 5-pin Module (EUU5), Pb-Free (RoHS); Manufacturer: Texas Instruments; PartNumber: PTN04050AAD; Iout(Max)(A): 1; SubFamily: Non-Isolated POL; Vin(Max)(V): 7; Vin(Min)(V): 2.9; VO Adjustable: TRUE; Vout(Max)(V): -3.3; Vout(Min)(V): -15; DatasheetVersion: SLTS250; PackageVersion: 4205246-3/C; PackageReference: EUU5; PackageDescription: 5-Pin Plastic Special Shape, Body 12.57 x 22.1 mm; Supplier 1: Digi-Key; Supplier Part Number 1: 296-20496-ND; Supplier 2: Farnell; Supplier Part Number 2: 1109717; Supplier 3: Newark; Supplier Part Number 3: 92K8242; Supplier 4: Newark; Supplier Part Number 4: 67K8278; Supplier 5: Mouser; Supplier Part Number 5: 595-PTN04050AAD; Eco-Plan: Pb-Free (RoHS); Regulated Outputs(#): 1; Mounting Technology: Through Hole; ComponentLink1Description: Manufacturer URL; ComponentLink1URL: http://www.ti.com/; ComponentLink2Description: Datasheet; ComponentLink2URL: http://www.ti.com/general/docs/lit/getliterature.tsp?genericPartNumber=PTN04050A&fileType=pdf; ComponentLink3Description: Package Specification; ComponentLink3URL: http://www.ti.com/litv/pdf/mpds237; ComponentLink4Description: URL Link1; ComponentLink4URL: Samples URL:http://www.ti.com/product/ptn04050a#samples
footprint TI-EUU5_V (Module, 5-Leads, Body 22.1x12.57mm)
pins: 1 GND (power) "The common ground connection for the VI and VO power connections. It is also the reference for the VO Adjust control inputs.", 2 VI (power) "The positive input voltage power node to the module, which is referenced to common GND.", 3 ~{INHIBIT} (in) "The Inhibit pin is an open-collector/drain (non-TTL), negative logic input that is referenced to GND. Applying a low-level ground signal to this input disables the module's output. When the Inhibit control is active-low, the (See Datasheet)", 4 VO ADJUST (in) "A 1% resistor must be connected between pin 4 and pin 1 to set the output voltage of the module. If left open-circuit, the output voltage defaults to -1.79 V, which is beyond the recommended operating range. The set-point (See Datasheet)", 5 VO (power) "The negative output voltage power node with respect to the GND node."

## PTN04050AAH
designator U?
6 W, 3.3 / 5 V Input, Wide Adjust Output Positive-to-Negative Converter, -40 to 85 degC, 5-pin Module (EUU5), Pb-Free (RoHS); Manufacturer: Texas Instruments; PartNumber: PTN04050AAH; Iout(Max)(A): 1; SubFamily: Non-Isolated POL; Vin(Max)(V): 7; Vin(Min)(V): 2.9; VO Adjustable: TRUE; Vout(Max)(V): -3.3; Vout(Min)(V): -15; DatasheetVersion: SLTS250; PackageVersion: 4205246-3/C; PackageReference: EUU5; PackageDescription: 5-Pin Plastic Special Shape, Body 12.57 x 22.1 mm; Supplier 1: Digi-Key; Supplier Part Number 1: 296-19751-ND; Supplier 2: Newark; Supplier Part Number 2: 67K8279; Supplier 3: Mouser; Supplier Part Number 3: 595-PTN04050AAH; Eco-Plan: Pb-Free (RoHS); Regulated Outputs(#): 1; Mounting Technology: Through Hole; ComponentLink1Description: Manufacturer URL; ComponentLink1URL: http://www.ti.com/; ComponentLink2Description: Datasheet; ComponentLink2URL: http://www.ti.com/general/docs/lit/getliterature.tsp?genericPartNumber=PTN04050A&fileType=pdf; ComponentLink3Description: Package Specification; ComponentLink3URL: http://www.ti.com/litv/pdf/mpds237; ComponentLink4Description: URL Link1; ComponentLink4URL: Samples URL:http://www.ti.com/product/ptn04050a#samples
footprint TI-EUU5_V (Module, 5-Leads, Body 22.1x12.57mm)
pins: 1 GND (power) "The common ground connection for the VI and VO power connections. It is also the reference for the VO Adjust control inputs.", 2 VI (power) "The positive input voltage power node to the module, which is referenced to common GND.", 3 ~{INHIBIT} (in) "The Inhibit pin is an open-collector/drain (non-TTL), negative logic input that is referenced to GND. Applying a low-level ground signal to this input disables the module's output. When the Inhibit control is active-low, the (See Datasheet)", 4 VO ADJUST (in) "A 1% resistor must be connected between pin 4 and pin 1 to set the output voltage of the module. If left open-circuit, the output voltage defaults to -1.79 V, which is beyond the recommended operating range. The set-point (See Datasheet)", 5 VO (power) "The negative output voltage power node with respect to the GND node."